# Altium schematic symbol library GRM31CR71H225KA88L.SchLib: 1 symbol
Pins are listed as number, name and electrical type; pins without a type are passive.

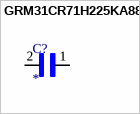
[diagram p0: symbol GRM31CR71H225KA88L]

## GRM31CR71H225KA88L
designator C?
2.2UF 50V 10% 1206; MP: GRM31CR71H225KA88L; MF: {'manufacturer': u'Murata Electronics'}; Package: None; Availability: Unavailable; Price: None; Value: *
footprint CAP3216X125N
pins: 1, 2